# Altium footprint library PcbLib1.PcbLib: 22 footprints (part 2 of 2)
Each footprint in its own frame and in the unit in brackets; x right, y up, seen from the top. Pads: shape width x height; smd on the part's side, far side on the other; paste and mask are expansions set on the pad; w line width, h text height; cw(c..) or ccw(c..) is an arc to the next point about the centre after c.
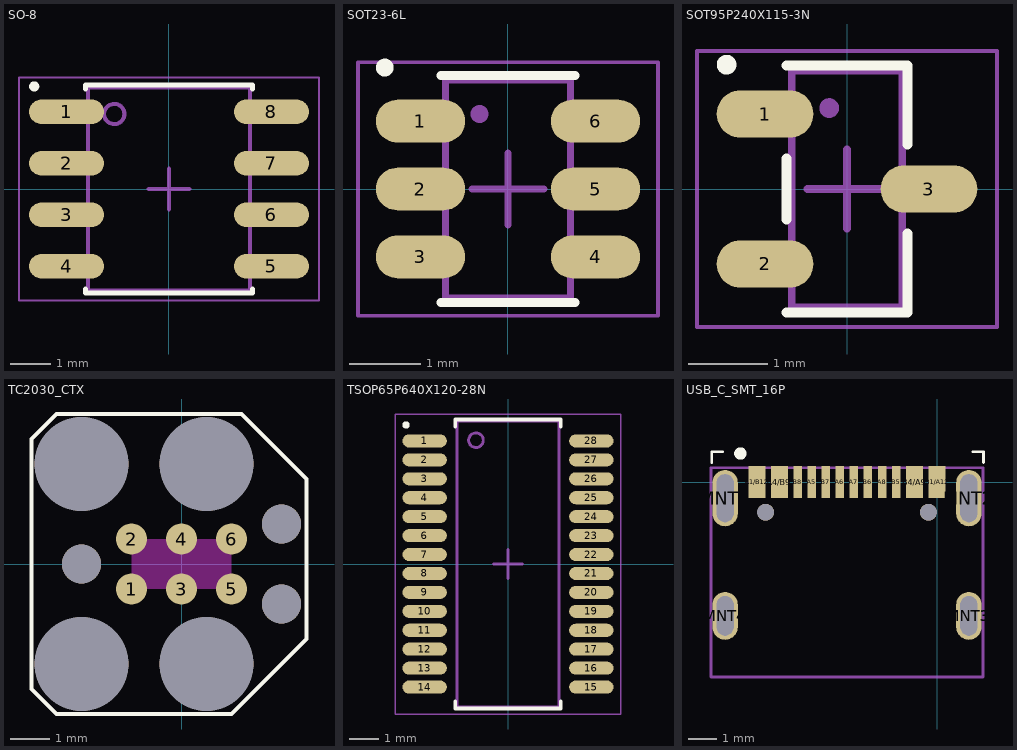
[diagram p1: the footprints below, top view; thin cyan lines are the x and y axes]

## SO-8 [mm] "SOIC, 8-Leads, Body 4.90x3.90mm, Pitch 1.27mm, IPC Medium Density"
height 1.75
pads (8):
  oval 1.85x0.6 smd: 1(-2.525,1.905) 2(-2.525,0.635) 3(-2.525,-0.635) 4(-2.525,-1.905) 5(2.525,-1.905) 6(2.525,-0.635) 7(2.525,0.635) 8(2.525,1.905)
Top Overlay:
  circle w0.125: c-3.325,2.53 r0.062
  lines w0.127: -2.063,-2.468 -2.063,-2.564 2.064,-2.564 2.064,-2.468 ; -2.063,2.468 -2.063,2.564 2.064,2.564 2.064,2.468
Top Assembly:
  circle w0.1: c-1.35,1.85 r0.25
  lines w0.1: -2,-2.5 -2,2.5 2,2.5 2,-2.5 -2,-2.5
Top Designator:
  text ".Designator" at 0,0.189 h1
Top Courtyard:
  lines w0.05: -3.7,-2.75 -3.7,2.75 3.7,2.75 3.7,-2.75 -3.7,-2.75
Top Component Center:
  lines w0.1: -0.5,0 0.5,0 ; 0,-0.5 0,0.5
3D body: height 1.75, standoff 0.1, extent -1.95,-2.45 1.95,2.45

## SOT23-6L [mm] "SOT23, 6-Leads, Body 2.93x2.80mm, Pitch 0.95mm, IPC Medium Density"
height 1.45
pads (6):
  oval 1.25x0.6 smd: 1(-1.225,0.95) 2(-1.225,0) 3(-1.225,-0.95) 4(1.225,-0.95) 5(1.225,0) 6(1.225,0.95)
Top Overlay:
  circle w0.125: c-1.725,1.7 r0.062
  lines w0.127: -0.938,-1.588 0.939,-1.588 ; -0.938,1.589 0.939,1.589
Top Assembly:
  circle w0.125: c-0.4,1.05 r0.062
  lines w0.1: -0.875,-1.525 0.875,-1.525 0.875,1.525 -0.875,1.525 -0.875,-1.525
Top Designator:
  text ".Designator" at 0,0.189 h1
Top Courtyard:
  lines w0.05: -2.1,-1.775 2.1,-1.775 2.1,1.775 -2.1,1.775 -2.1,-1.775
Top Component Center:
  lines w0.1: -0.5,0 0.5,0 ; 0,-0.5 0,0.5
3D body: height 1.45, standoff 0.1, extent -0.812,-1.462 0.813,1.463

## SOT95P240X115-3N [mm] "SOT23, 3-Leads, Body 2.90x2.40mm, Pitch 0.95mm, IPC Medium Density"
height 1.15
pads (3):
  oval 1.225x0.6 smd: 1(-1.038,0.95) 2(-1.038,-0.95) 3(1.037,0)
Top Overlay:
  circle w0.125: c-1.525,1.575 r0.062
  lines w0.127: -0.764,-1.563 0.763,-1.563 0.763,-0.564 ; -0.764,-0.386 -0.764,0.386 ; -0.764,1.563 0.763,1.563 0.763,0.564
Top Assembly:
  circle w0.125: c-0.225,1.025 r0.062
  lines w0.1: -0.7,-1.5 0.7,-1.5 0.7,1.5 -0.7,1.5 -0.7,-1.5
Top Designator:
  text ".Designator" at 0,0.189 h1
Top Courtyard:
  lines w0.05: -1.9,-1.75 1.9,-1.75 1.9,1.75 -1.9,1.75 -1.9,-1.75
Top Component Center:
  lines w0.1: -0.5,0 0.5,0 ; 0,-0.5 0,0.5
3D body: height 1.15, standoff 0.1, extent -0.65,-1.45 0.65,1.45

## TC2030_CTX [mm]
pads (13):
  round 0.787 smd paste-2539.97: 1(-1.27,-0.635) 2(-1.27,0.635) 3(0,-0.635) 4(0,0.635) 5(1.27,-0.635) 6(1.27,0.635)
  round 2.375 hole 2.375 unplated: ""(-2.54,-2.54) ""(-2.54,2.54) ""(0.635,-2.54) ""(0.635,2.54)
  round 0.991 hole 0.991 unplated: ""(-2.54,0) ""(2.54,-1.016) ""(2.54,1.016)
Top Layer keep-out:
  rectangle: -1.27,-0.635 1.27,0.635
Top Overlay:
  lines w0.1: -3.81,-3.175 -3.175,-3.81 1.27,-3.81 3.175,-1.905 3.175,2.159 1.524,3.81 -3.175,3.81 -3.81,3.175 -3.81,-3.175

## TSOP65P640X120-28N [mm] "TSOP, 28-Leads, Body 9.70x3.90mm, Pitch 0.65mm, IPC Medium Density"
height 1.2
pads (28):
  oval 1.525x0.45 smd: 1(-2.863,4.225) 2(-2.863,3.575) 3(-2.863,2.925) 4(-2.863,2.275) 5(-2.863,1.625) 6(-2.863,0.975) 7(-2.863,0.325) 8(-2.863,-0.325) 9(-2.863,-0.975) 10(-2.863,-1.625) 11(-2.863,-2.275) 12(-2.863,-2.925) 13(-2.863,-3.575) 14(-2.863,-4.225) 15(2.862,-4.225) 16(2.862,-3.575) 17(2.862,-2.925) 18(2.862,-2.275) 19(2.862,-1.625) 20(2.862,-0.975) 21(2.862,-0.325) 22(2.862,0.325) 23(2.862,0.975) 24(2.862,1.625) 25(2.862,2.275) 26(2.862,2.925) 27(2.862,3.575) 28(2.862,4.225)
Top Overlay:
  circle w0.125: c-3.5,4.775 r0.062
  lines w0.127: -1.814,-4.713 -1.814,-4.964 1.813,-4.964 1.813,-4.713 ; -1.814,4.714 -1.814,4.964 1.813,4.964 1.813,4.714
Top Assembly:
  circle w0.1: c-1.1,4.25 r0.25
  lines w0.1: -1.75,-4.9 -1.75,4.9 1.75,4.9 1.75,-4.9 -1.75,-4.9
Top Designator:
  text ".Designator" at 0,0.189 h1
Top Courtyard:
  lines w0.05: -3.875,-5.15 -3.875,5.15 3.875,5.15 3.875,-5.15 -3.875,-5.15
Top Component Center:
  lines w0.1: -0.5,0 0.5,0 ; 0,-0.5 0,0.5
3D body: height 1.2, standoff 0.15, extent -1.95,-4.85 1.95,4.85

## USB_C_SMT_16P [mm]
pads (18):
  rect 0.6x1.14 smd: A1/B12(-6.4,0) A4/B9(-5.6,0) B1/A12(0,0) B4/A9(-0.8,0)
  rect 0.3x1.14 smd: A5(-4.45,0) A6(-3.458,0) A7(-2.958,0) A8(-1.95,0) B5(-1.45,0) B6(-2.458,0) B7(-3.958,0) B8(-4.95,0)
  oval 0.9x2 hole 0.6 slot 1.7 at 90 deg: MNT1(-7.525,-0.57) MNT2(1.125,-0.57)
  oval 0.9x1.7 hole 0.6 slot 1.4 at 90 deg: MNT3(1.125,-4.75) MNT4(-7.525,-4.75)
  round 0.6 hole 0.6 unplated: ""(-6.09,-1.07) ""(-0.31,-1.07)
Top Overlay:
  circle w0.254: c-6.985,1.016 r0.092
  lines w0.1: -8.001,0.699 -8.001,1.079 -7.62,1.079 ; 1.27,1.079 1.651,1.079 1.651,0.699
Top Courtyard:
  lines w0.1: -8.026,-6.922 1.626,-6.922 1.626,0.508 -8.026,0.508 -8.026,-6.922
3D body "HRO  TYPE-C-31-M-12.step": height 3.21, standoff -1, extent -7.695,-7.328 1.245,0.572